# EAGLE library part DDS,AD9910 (library QuantumOptics)
DDS, AD9910, 1GSPS, from Analog Devices.
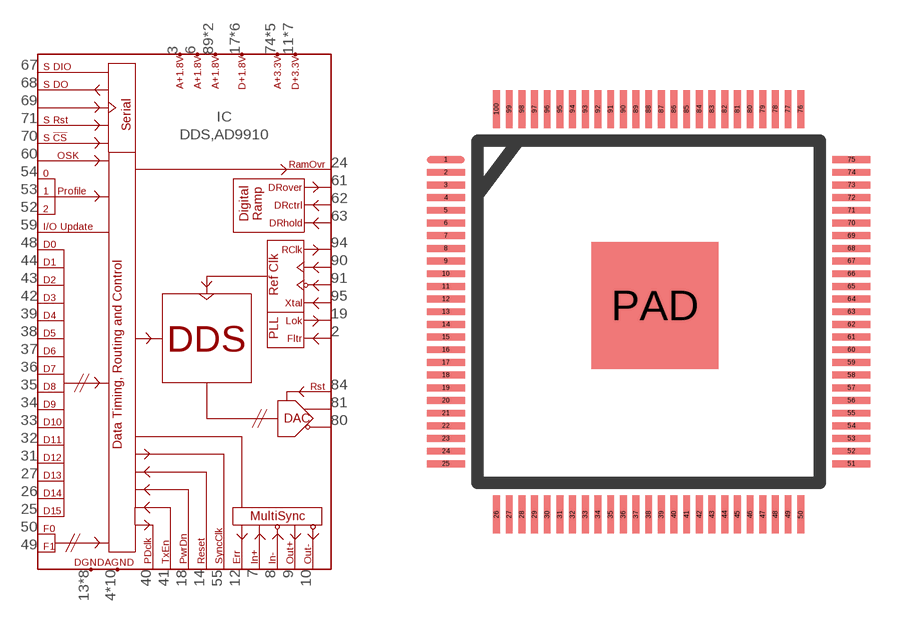
[diagram p177: symbol with the pads of TQFP100PAD; footprint TQFP100PAD]

Designator prefix IC

## DDS,AD9910-TQFP100PAD  [TQFP100PAD]
2  PLL_FILTER  in
3  AVDD1.8V3
4  AGND
5  AGND
6  AVDD1.8V6
7  SYNC_IN+  in
8  SYNC_IN-  in
9  SYNC_OUT+  out
10  SYNC_OUT-  out
11  DVDD3.3
12  SYNC_SMP_ERR  out
13  DGND
14  MASTER_RST  in
15  DVDD3.3
16  DGND
17  DVDD1.8
18  PWRDOWN  in
19  PLL_LOCK  out
21  DVDD3.3
22  DGND
23  DVDD1.8
24  RAM_SWP_OVER  out
25  D15  in
26  D14  in
27  D13  in
28  DVDD3.3
29  DGND
30  DVDD1.8
31  D12  in
32  D11  in
33  D10  in
34  D9  in
35  D8  in
36  D7  in
37  D6  in
38  D5  in
39  D4  in
40  PDCLK  out
41  TXEN  in
42  D3  in
43  D2  in
44  D1  in
45  DVDD3.3
46  DGND
47  DVDD1.8
48  D0  in
49  F1  in
50  F0  in
51  DGND
52  PRO2  in
53  PRO1  in
54  PRO0  in
55  SYNC_CLK  out
56  DVDD3.3
57  DVDD1.8
58  DGND
59  IOUP
60  OSK  in
61  DROVER  out
62  DRCTRL  in
63  DRHOLD  in
64  DVDD1.8
65  DGND
66  DVDD3.3
67  SDIO
68  SDO  out
69  SCLK  in
70  !CS  in
71  IORST  in
73  AGND
74  AVDD3.3
75  AVDD3.3
76  AVDD3.3
77  AVDD3.3
78  AGND
79  AGND
80  !IOUT  out
81  IOUT  out
82  AGND
83  AVDD3.3
84  DAC_RST  in
85  AGND
88  AGND
89  AVDD1.8V89
90  REF_CLK  in
91  !REF_CLK  in
92  AVDD1.8V89
94  REFCLK_OUT  out
95  XTAL_SEL  in
96  AGND
PAD  AGND

## Footprint TQFP100PAD (pad centres in mm)
TQFP-100 with exposed pad, 5x5mm pad, based on TQFP-100.
smd 1.5 x 0.27: 1 -8.25,5.75; 2 -8.25,5.25; 3 -8.25,4.75; 4 -8.25,4.25; 5 -8.25,3.75; 6 -8.25,3.25; 7 -8.25,2.75; 8 -8.25,2.25; 9 -8.25,1.75; 10 -8.25,1.25; 11 -8.25,0.75; 12 -8.25,0.25; 13 -8.25,-0.25; 14 -8.25,-0.75; 15 -8.25,-1.25; 16 -8.25,-1.75; 17 -8.25,-2.25; 18 -8.25,-2.75; 19 -8.25,-3.25; 20 -8.25,-3.75; 21 -8.25,-4.25; 22 -8.25,-4.75; 23 -8.25,-5.25; 24 -8.25,-5.75; 25 -8.25,-6.25; 51 7.75,-6.25; 52 7.75,-5.75; 53 7.75,-5.25; 54 7.75,-4.75; 55 7.75,-4.25; 56 7.75,-3.75; 57 7.75,-3.25; 58 7.75,-2.75; 59 7.75,-2.25; 60 7.75,-1.75; 61 7.75,-1.25; 62 7.75,-0.75; 63 7.75,-0.25; 64 7.75,0.25; 65 7.75,0.75; 66 7.75,1.25; 67 7.75,1.75; 68 7.75,2.25; 69 7.75,2.75; 70 7.75,3.25; 71 7.75,3.75; 72 7.75,4.25; 73 7.75,4.75; 74 7.75,5.25; 75 7.75,5.75
smd 0.27 x 1.5: 26 -6.25,-8.25; 27 -5.75,-8.25; 28 -5.25,-8.25; 29 -4.75,-8.25; 30 -4.25,-8.25; 31 -3.75,-8.25; 32 -3.25,-8.25; 33 -2.75,-8.25; 34 -2.25,-8.25; 35 -1.75,-8.25; 36 -1.25,-8.25; 37 -0.75,-8.25; 38 -0.25,-8.25; 39 0.25,-8.25; 40 0.75,-8.25; 41 1.25,-8.25; 42 1.75,-8.25; 43 2.25,-8.25; 44 2.75,-8.25; 45 3.25,-8.25; 46 3.75,-8.25; 47 4.25,-8.25; 48 4.75,-8.25; 49 5.25,-8.25; 50 5.75,-8.25; 76 5.75,7.75; 77 5.25,7.75; 78 4.75,7.75; 79 4.25,7.75; 80 3.75,7.75; 81 3.25,7.75; 82 2.75,7.75; 83 2.25,7.75; 84 1.75,7.75; 85 1.25,7.75; 86 0.75,7.75; 87 0.25,7.75; 88 -0.25,7.75; 89 -0.75,7.75; 90 -1.25,7.75; 91 -1.75,7.75; 92 -2.25,7.75; 93 -2.75,7.75; 94 -3.25,7.75; 95 -3.75,7.75; 96 -4.25,7.75; 97 -4.75,7.75; 98 -5.25,7.75; 99 -5.75,7.75; 100 -6.25,7.75
smd 5 x 5: PAD 0,0